# Altium schematic symbol library SCH - BJT - DIODES INC NPN SOT-52-3.SchLib: 1 symbol
Pins are listed as number, name and electrical type; pins without a type are passive.

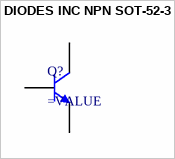
[diagram p0: symbol DIODES INC NPN SOT-52-3]

## DIODES INC NPN SOT-52-3
designator Q?
pins: B, C, E